# Altium footprint library RESISTOR_TH_POWER(50X10).PcbLib: 1 footprints
Each footprint in its own frame and in the unit in brackets; x right, y up, seen from the top. Pads: shape width x height; smd on the part's side, far side on the other; paste and mask are expansions set on the pad; w line width, h text height; cw(c..) or ccw(c..) is an arc to the next point about the centre after c.
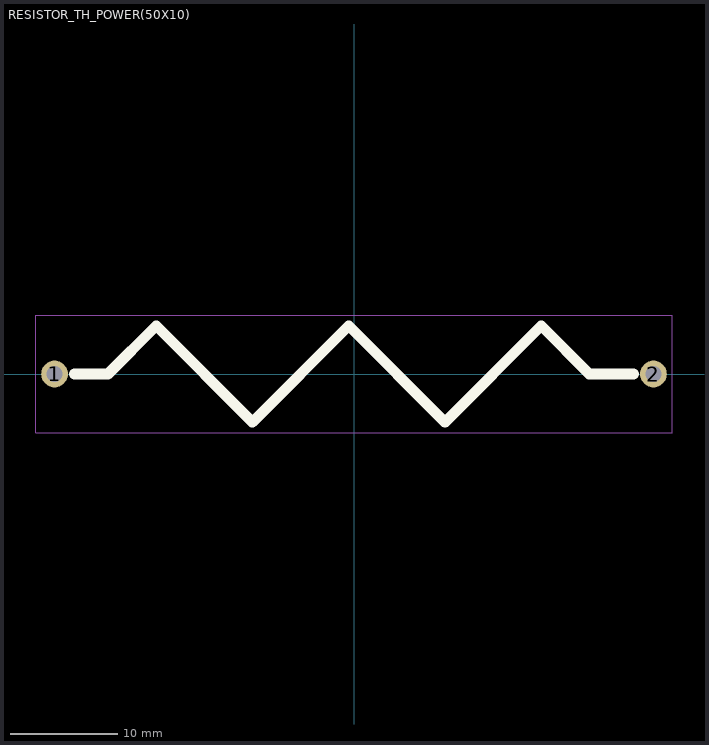
[diagram p0: the footprint, top view; thin cyan lines are the x and y axes]

## RESISTOR_TH_POWER(50X10) [mm]
pads (2):
  round 2.5 hole 1.5: 1(-28,0) 2(28,0)
Top Overlay:
  lines w1: -26.125,0 -23,0 -18.5,4.5 -9.5,-4.5 -0.5,4.5 8.5,-4.5 17.5,4.5 22,0 26.125,0
Top Courtyard:
  lines w0.1: -29.75,-5.5 -29.75,5.5 24,5.5 29.75,5.5 29.75,-5.5 -25,-5.5 -29.75,-5.5
3D body: height 10, standoff 0, extent -25,-5 25,5